# EAGLE library part CAT24C32 (library pi3_hat)
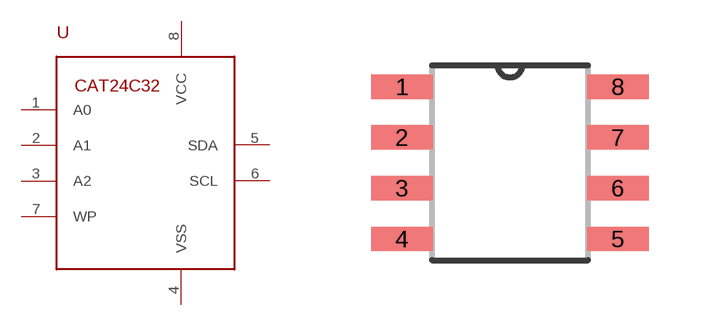
[diagram p10: symbol with the pads of SOIC8; footprint SOIC8]

Designator prefix U

## CAT24C32SOIC8  [SOIC8]
1  A0
2  A1
3  A2
4  VSS
5  SDA
6  SCL
7  WP
8  VCC

## Footprint SOIC8 (pad centres in mm)
smd 1.549 x 0.61: 1 -2.7,1.905; 2 -2.7,0.635; 3 -2.7,-0.635; 4 -2.7,-1.905; 5 2.7,-1.905; 6 2.7,-0.635; 7 2.7,0.635; 8 2.7,1.905